# Altium footprint library 3228 Tricolor PLCC-4 LED.PcbLib: 1 footprints
Each footprint in its own frame and in the unit in brackets; x right, y up, seen from the top. Pads: shape width x height; smd on the part's side, far side on the other; paste and mask are expansions set on the pad; w line width, h text height; cw(c..) or ccw(c..) is an arc to the next point about the centre after c.
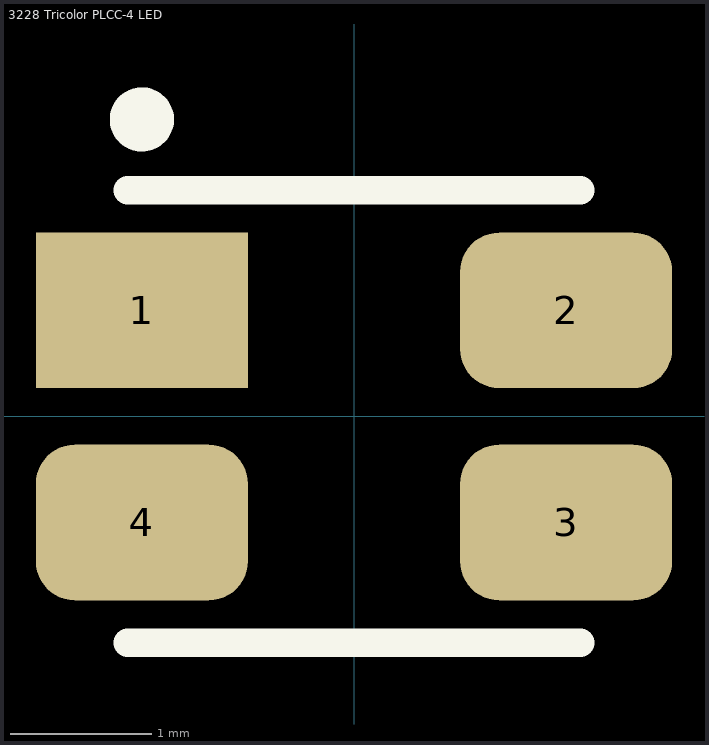
[diagram p0: the footprint, top view; thin cyan lines are the x and y axes]

## 3228 Tricolor PLCC-4 LED [mm] "3228Tricolor PLCC-4 LED"
height 2
pads (4):
  rect 1.5x1.1 smd: 1(-1.5,0.75)
  rrect50% 1.5x1.1 smd: 2(1.5,0.75) 3(1.5,-0.75) 4(-1.5,-0.75)
Top Overlay:
  circle w0.254: c-1.5,2.1 r0.1
  lines w0.2: -1.6,-1.6 1.6,-1.6 ; -1.6,1.6 1.6,1.6
3D body "User Library-ASMB-MTB0-0A3A2.step": height 1.9, standoff 0, extent -1.75,-1.4 1.75,1.4